# EAGLE library part I2CEEPROM-SOIC8 (library hdmispi)
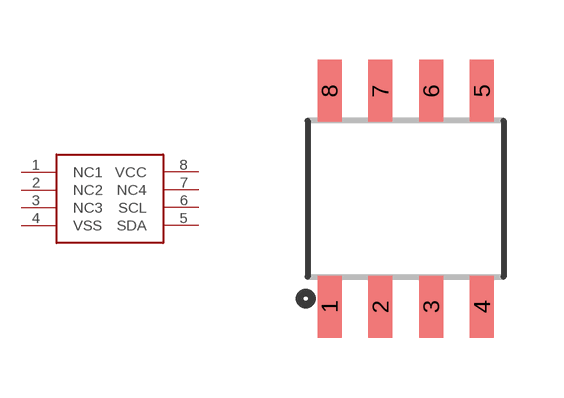
[diagram p1: symbol with the pads of SOIC8; footprint SOIC8]

Designator prefix -

## I2CEEPROM-SOIC8  [SOIC8]
1  NC1
2  NC2
3  NC3
4  VSS
5  SDA
6  SCL
7  NC4
8  VCC

## Footprint SOIC8 (pad centres in mm)
smd 0.6 x 1.55: 1 -1.905,-2.7; 2 -0.635,-2.7; 3 0.635,-2.7; 4 1.905,-2.7; 5 1.905,2.7; 6 0.635,2.7; 7 -0.635,2.7; 8 -1.905,2.7